# Altium integrated library RFM98W-433S2.IntLib: 1 symbol
Pins are listed as number, name and electrical type; pins without a type are passive.

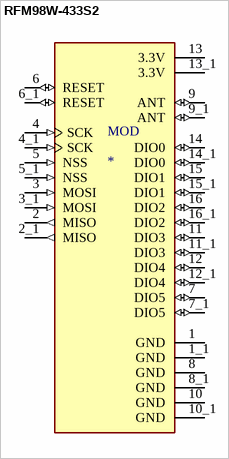
[diagram p0: symbol RFM98W-433S2]

## RFM98W-433S2
designator MOD
802.15.4, General ISM < 1GHz LoRaâ„¢ Transceiver Module 433MHz Surface Mount; MF: RF Solutions; MP: RFM98W-433S2; Value: *; SnapEDA_Link: https://www.snapeda.com/parts/RFM98W-433S2/RF%20Solutions/view-part/583263/?ref=snap; Package: SMD-16 RF Solutions; Availability: Unavailable; Price: None
footprint XCVR_RFM98W-433S2
pins: 1 GND (power), 1_1 GND (power), 2 MISO (out), 2_1 MISO (out), 3 MOSI (in), 3_1 MOSI (in), 4 SCK (in), 4_1 SCK (in), 5 NSS (in), 5_1 NSS (in), 6 RESET (io), 6_1 RESET (io), 7 DIO5 (io), 7_1 DIO5 (io), 8 GND (power), 8_1 GND (power), 9 ANT (io), 9_1 ANT (io), 10 GND (power), 10_1 GND (power), 11 DIO3 (io), 11_1 DIO3 (io), 12 DIO4 (io), 12_1 DIO4 (io), 13 3.3V (power), 13_1 3.3V (power), 14 DIO0 (io), 14_1 DIO0 (io), 15 DIO1 (io), 15_1 DIO1 (io), 16 DIO2 (io), 16_1 DIO2 (io)